# Altium schematic symbol library DRV8825PWP.SchLib: 1 symbol
Pins are listed as number, name and electrical type; pins without a type are passive.

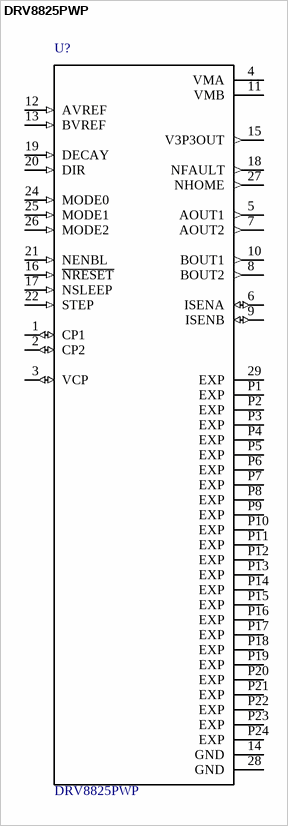
[diagram p0: symbol DRV8825PWP]

## DRV8825PWP
designator U?
2.5A Bipolar Stepper Motor Driver with On-Chip 1/32 Microstepping Indexer _Step/Dir Ctrl_ 28-HTSSOP -40 to 85; MF: Texas Instruments; Availability: Unavailable; SnapEDA_Link: https://www.snapeda.com/parts/DRV8825PWP/Texas%20Instruments/view-part/?ref=snap; Price: None; Package: HTSSOP-28 Texas Instruments; MP: DRV8825PWP; Value: *
footprint *SOP65P640X120-29N_DRV8825PWP(Primary)
pins: 1 CP1 (io), 2 CP2 (io), 3 VCP (io), 4 VMA (power), 5 AOUT1 (out), 6 ISENA (io), 7 AOUT2 (out), 8 BOUT2 (out), 9 ISENB (io), 10 BOUT1 (out), 11 VMB (power), 12 AVREF (in), 13 BVREF (in), 14 GND (power), 15 V3P3OUT (out), 16 ~{NRESET} (in), 17 NSLEEP (in), 18 NFAULT (out), 19 DECAY (in), 20 DIR (in), 21 NENBL (in), 22 STEP (in), 24 MODE0 (in), 25 MODE1 (in), 26 MODE2 (in), 27 NHOME (out), 28 GND (power), 29 EXP (power), P1 EXP (power), P2 EXP (power), P3 EXP (power), P4 EXP (power), P5 EXP (power), P6 EXP (power), P7 EXP (power), P8 EXP (power), P9 EXP (power), P10 EXP (power), P11 EXP (power), P12 EXP (power), P13 EXP (power), P14 EXP (power), P15 EXP (power), P16 EXP (power), P17 EXP (power), P18 EXP (power), P19 EXP (power), P20 EXP (power), P21 EXP (power), P22 EXP (power), P23 EXP (power), P24 EXP (power)